# Altium footprint library Sensor.PcbLib: 1 footprints
Each footprint in its own frame and in the unit in brackets; x right, y up, seen from the top. Pads: shape width x height; smd on the part's side, far side on the other; paste and mask are expansions set on the pad; w line width, h text height; cw(c..) or ccw(c..) is an arc to the next point about the centre after c.
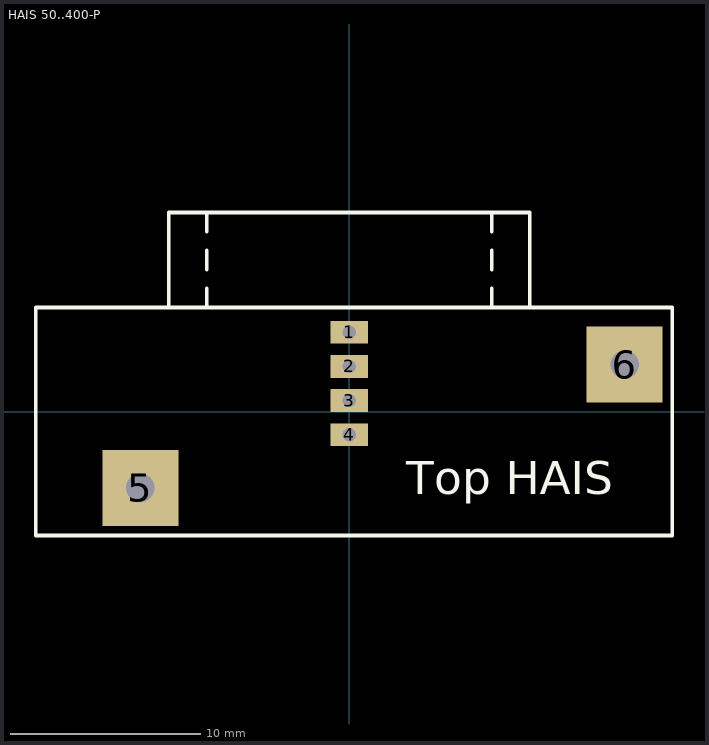
[diagram p0: the footprint, top view; thin cyan lines are the x and y axes]

## HAIS 50..400-P [mm] "Датчик тока фирмы LEM"
height 30
pads (6):
  rect 2x1.2 hole 0.7: 1(0,4.2) 2(0,2.4) 3(0,0.6) 4(0,-1.2)
  rect 4x4 hole 1.5: 5(-11,-4) 6(14.5,2.5)
Top Overlay:
  lines w0.2: -9.5,5.5 -9.5,10.5 9.5,10.5 9.5,5.5 ; -7.5,5.5 -7.5,6.5 ; -7.5,7.5 -7.5,8.5 ; -7.5,9.5 -7.5,10.5 ; 7.5,5.5 7.5,6.5 ; 7.5,7.5 7.5,8.5 ; 7.5,9.5 7.5,10.5 ; -16.5,-6.5 17,-6.5 17,5.5 -16.5,5.5 -16.5,-6.5
  text "Top HAIS" at 3,-4.9 h3